# Altium footprint library led0402.PcbLib: 1 footprints
Each footprint in its own frame and in the unit in brackets; x right, y up, seen from the top. Pads: shape width x height; smd on the part's side, far side on the other; paste and mask are expansions set on the pad; w line width, h text height; cw(c..) or ccw(c..) is an arc to the next point about the centre after c.
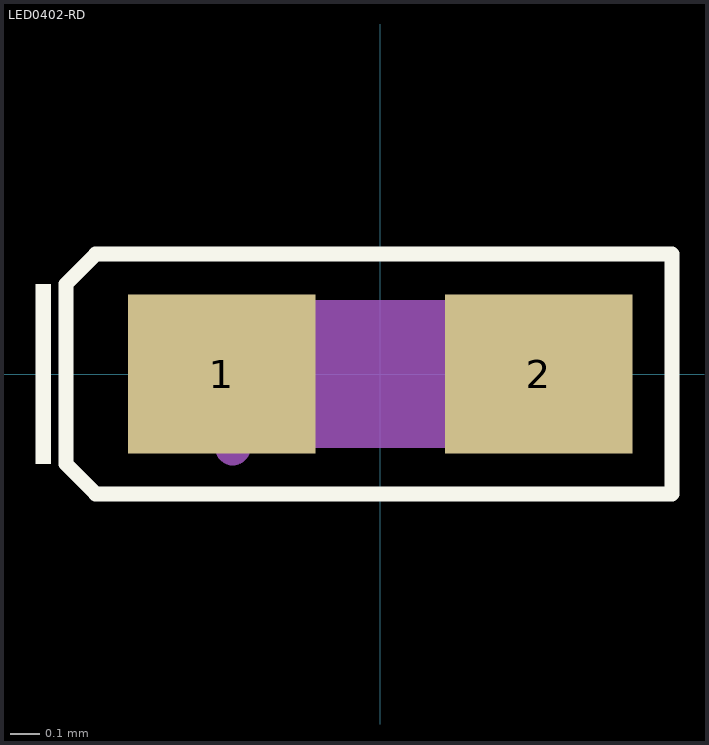
[diagram p0: the footprint, top view; thin cyan lines are the x and y axes]

## LED0402-RD [mm]
pads (2):
  rect 0.636x0.54 smd: 1(-0.538,0) 2(0.538,0)
Top Overlay:
  region: -1.118,-0.305 -1.118,0.305 -1.168,0.305 -1.168,-0.305
  lines w0.051: -1.067,-0.305 -0.965,-0.406 0.991,-0.406 0.991,0.406 -0.965,0.406 -1.067,0.305 -1.067,-0.279 -1.067,-0.305
Top Paste:
  region: 0.198,-0.23 0.198,0.23 0.238,0.27 0.816,0.27 0.856,0.23 0.856,-0.23 0.816,-0.27 0.238,-0.27
  region: -0.198,-0.23 -0.198,0.23 -0.238,0.27 -0.816,0.27 -0.856,0.23 -0.856,-0.23 -0.816,-0.27 -0.238,-0.27
Mechanical 4:
  region: -0.5,-0.25 -0.5,0.25 0.5,0.25 0.5,-0.25
Mechanical 5:
  region: -0.5,-0.25 -0.5,0.25 -0.3,0.25 -0.3,-0.25
  region: 0.5,-0.25 0.5,0.25 0.3,0.25 0.3,-0.25
Mechanical 6:
  circle w0.06: c-0.5,-0.25 r0.03
Mechanical 15:
  region: -0.44,-0.03 -0.44,0.03 -0.2,0.03 -0.2,-0.03
  region: 0.44,-0.03 0.44,0.03 0.2,0.03 0.2,-0.03
  region: 0.35,-0.2 0.35,0.2 0.29,0.2 0.29,-0.2